# Altium integrated library HeaderStack3.IntLib: 1 symbol
Pins are listed as number, name and electrical type; pins without a type are passive.

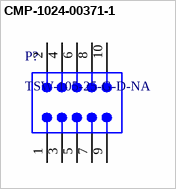
[diagram p0: symbol CMP-1024-00371-1]

## CMP-1024-00371-1
designator P?, comment TSW-105-25-G-D-NA
0.025" SQ Post Header, Through-hole, Right Angle, -55 to 125 degC, 2.54 mm Pitch, 10-Pin, Male, RoHS; Manufacturer: Samtec; Pitch: 2.54 mm; Orientation: Right Angle; ComponentLink2URL: http://www.samtec.com/documents/webfiles/pdf/TSW_TH.PDF; PackageDescription: .025[0.64] SQ. Post Terminal Strip Assembly; ComponentLink1URL: http://www.samtec.com; ComponentLink2Description: Datasheet; PackageReference: TSW-105-25-X-D-NA; RoHS: True; PartNumber: TSW-105-25-G-D-NA; ComponentLink3URL: http://www.samtec.com/documents/webfiles/cpdf/TSW-XXX-XX-XXX-X-XX-XXX-MKT.pdf; DatasheetVersion: F-214; ComponentLink3Description: Package Specification; Temperature Range: -55 to 125 degC; ComponentLink1Description: Manufacturer URL; Mounting Technology: Through-hole; PackageVersion: DM, 8/1988
footprint SMTC-TSW-105-25-X-D-NA (.025 SQ Post Terminal Strip Assembly, 2x5 Pins, Right Angle, 2.54mm Pitch, Male)
pins: 1, 2, 3, 4, 5, 6, 7, 8, 9, 10